# Altium footprint library HyTechDevices.PCBLIB: 209 footprints (part 4 of 14)
Each footprint in its own frame and in the unit in brackets; x right, y up, seen from the top. Pads: shape width x height; smd on the part's side, far side on the other; paste and mask are expansions set on the pad; w line width, h text height; cw(c..) or ccw(c..) is an arc to the next point about the centre after c.
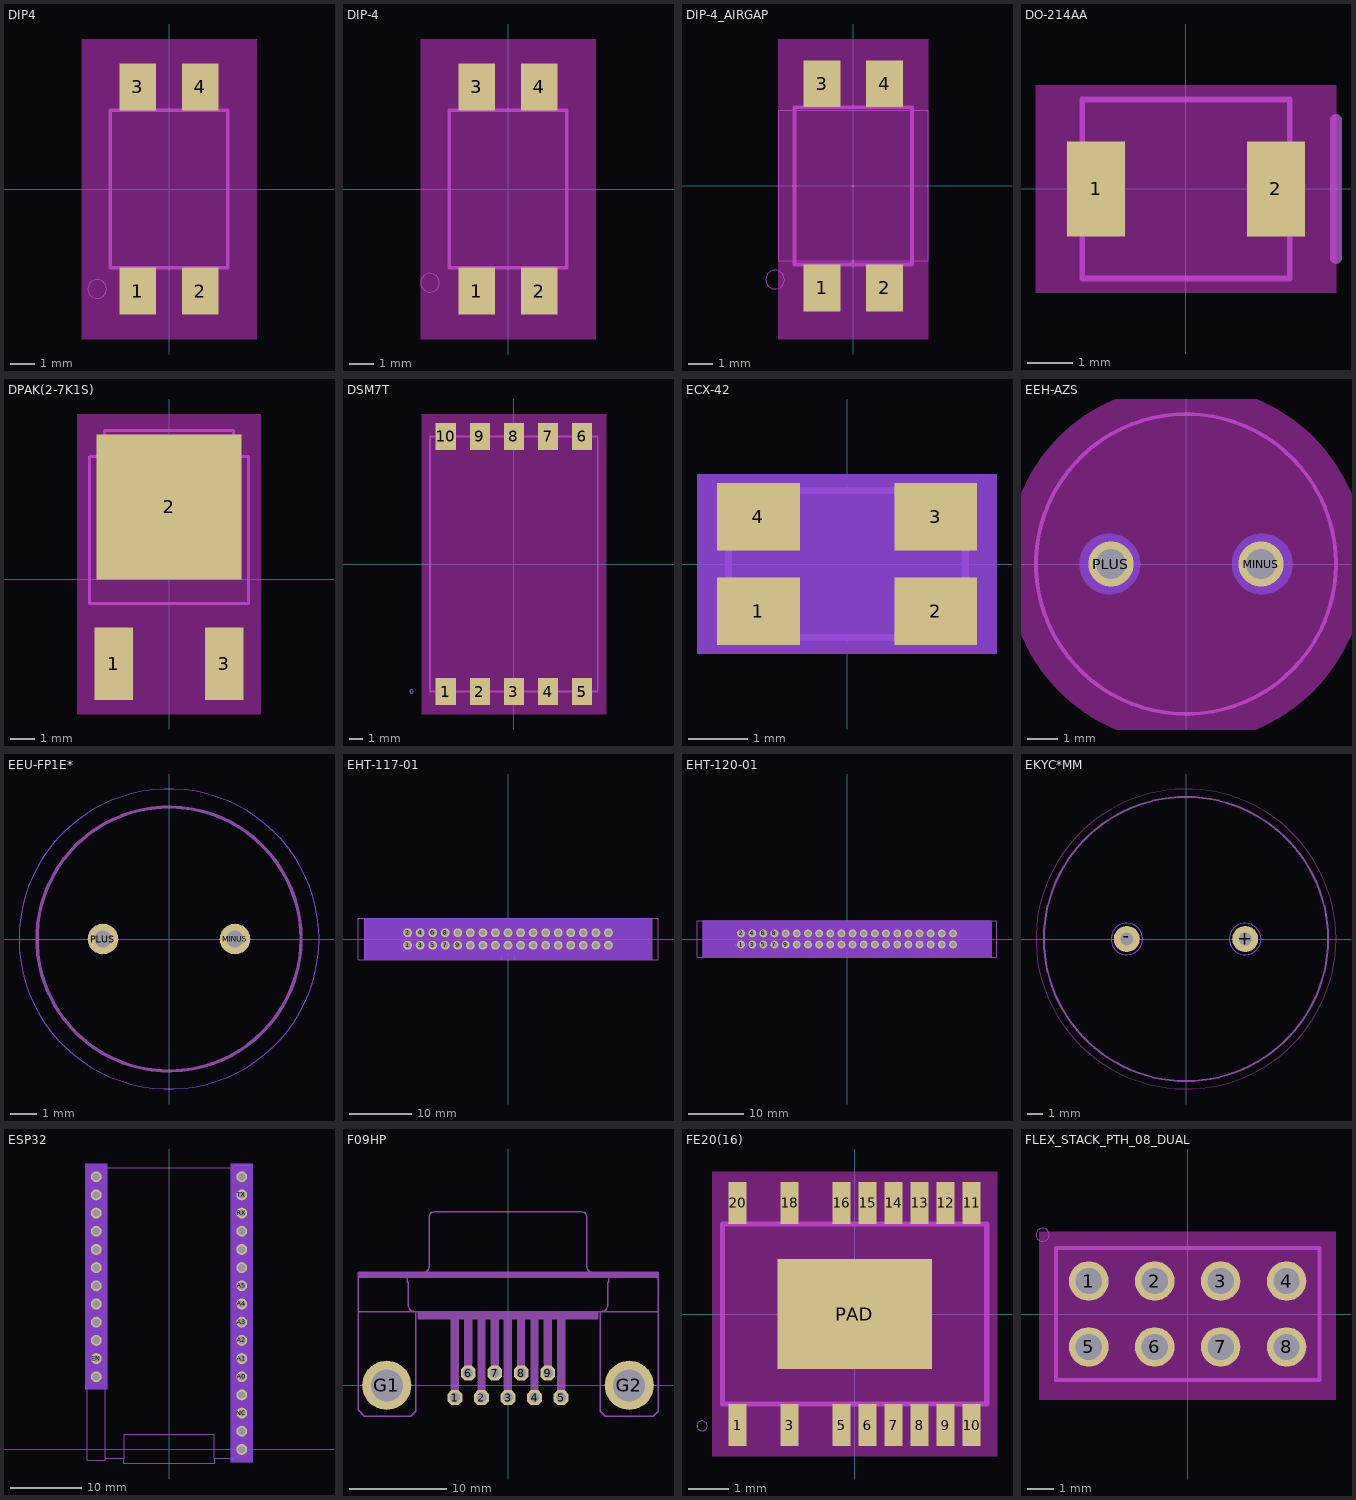
[diagram p3: the footprints below, top view; thin cyan lines are the x and y axes]

## DIP4 [mil]
pads (4):
  rect 59.06x74.8 smd: 1(-50,-163.39) 2(50,-163.39) 3(-50,163.39) 4(50,163.39)
Top keep-out:
  region: -140,-240 -140,240 140,240 140,-240
tPlace:
  circle w0: c-115,-160 r15
  lines w5: -94.09,-125.98 -94.09,125.98 94.09,125.98 94.09,-125.98 -94.09,-125.98

## DIP-4 [mil]
pads (4):
  rect 59.06x74.8 smd: 1(-50,-163.39) 2(50,-163.39) 3(-50,163.39) 4(50,163.39)
Top keep-out:
  region: -140,-240 -140,240 140,240 140,-240
tPlace:
  circle w0: c-125,-150 r15
  lines w6: -94.09,-125.98 -94.09,125.98 94.09,125.98 94.09,-125.98 -94.09,-125.98

## DIP-4_AIRGAP [mil]
pads (4):
  rect 59.06x74.8 smd: 1(-50,-163.39) 2(50,-163.39) 3(-50,163.39) 4(50,163.39)
Top keep-out:
  region: -120,-245 -120,235 120,235 120,-245
Milling:
  lines w2: -120,-120 -120,120 120,120 120,-120 -120,-120
tPlace:
  circle w0: c-125,-150 r15
  lines w6: -94.09,-125.98 -94.09,125.98 94.09,125.98 94.09,-125.98 -94.09,-125.98

## DO-214AA [mil]
pads (2):
  rect 50x82.68 smd: 1(-77.95,0) 2(77.95,0)
Top keep-out:
  region: -130,-90 -130,90 130,90 130,-90
tPlace:
  lines w5: -89.96,-77.56 89.96,-77.56 89.96,77.56 -89.96,77.56 -89.96,-77.56
  lines w10: 130,-60 130,60

## DPAK(2-7K1S) [mm]
pads (3):
  rect 1.6x3 smd: 1(-2.3,-3.5) 3(2.3,-3.5)
  rect 6x6 smd: 2(0,3)
Top keep-out:
  region: -3.81,-5.588 -3.81,6.858 3.81,6.858 3.81,-5.588
tPlace:
  lines w0.127: -3.3,-1 3.3,-1 3.3,5.1 2.67,5.1 2.67,6.18 -2.67,6.18 -2.67,5.1 -3.3,5.1 -3.3,-1

## DSM7T [mm]
pads (10):
  rect 1.5x2 smd: 1(-5.08,-9.5) 2(-2.54,-9.5) 3(0,-9.5) 4(2.54,-9.5) 5(5.08,-9.5) 6(5.08,9.5) 7(2.54,9.5) 8(0,9.5) 9(-2.54,9.5) 10(-5.08,9.5)
Top keep-out:
  region: -6.858,-11.176 -6.858,11.176 6.858,11.176 6.858,-11.176
tPlace:
  circle w0: c-7.62,-9.5 r0.127
  lines w0.127: -6.25,-9.5 -6.25,9.5 6.25,9.5 6.25,-9.5 -6.25,-9.5

## ECX-42 [mil]
pads (4):
  rect 55.12x45.28 smd: 1(-59.06,-31.5) 2(59.06,-31.5) 3(59.06,31.5) 4(-59.06,31.5)
Top keep-out:
  region: -100,-60 -100,60 100,60 100,-60
  region: -30,-60 -30,60 30,60 30,-60
  region: -100,-60 -100,60 100,60 100,-60
  region: -100,-8 -100,8 100,8 100,-8
Bottom keep-out:
  region: -100,-60 -100,60 100,60 100,-60
  region: -100,-60 -100,60 100,60 100,-60
tPlace:
  lines w5: -78.74,-49.21 78.74,-49.21 78.74,49.21 -78.74,49.21 -78.74,-49.21
3D body "X322512MSB4SI.stp": height 27.56, standoff 0, extent -62.99,-49.21 62.99,49.21

## EEH-AZS [mm]
pads (2):
  round 1.508 hole 1: MINUS(2.5,0) PLUS(-2.5,0)
Top keep-out:
  circle w6: c0,0 r3
Bottom keep-out:
  circle w1.016: c-2.54,0 r0.508
  circle w1.016: c2.54,0 r0.508
tPlace:
  circle w0.127: c0,0 r5
  text "-" at 6,0 h2.76
  text "+" at -6,0 h2.76

## EEU-FP1E* [mil]
pads (2):
  round 45.6 hole 25.6: MINUS(98.43,0) PLUS(-98.43,0)
Top keep-out:
  circle w0: c0,0 r223.61
Bottom keep-out:
  circle w0: c0,0 r223.61
tPlace:
  circle w5: c0,0 r196.8
  text "+" at -245,0 h49.6
  text "-" at 245,0 h49.6

## EHT-117-01 [mm]
pads (34):
  round 1.408 hole 0.9: 1(-16,-1) 2(-16,1) 3(-14,-1) 4(-14,1) 5(-12,-1) 6(-12,1) 7(-10,-1) 8(-10,1) 9(-8,-1) 10(-8,1) 11(-6,-1) 12(-6,1) 13(-4,-1) 14(-4,1) 15(-2,-1) 16(-2,1) 17(0,-1) 18(0,1) 19(2,-1) 20(2,1) 21(4,-1) 22(4,1) 23(6,-1) 24(6,1) 25(8,-1) 26(8,1) 27(10,-1) 28(10,1) 29(12,-1) 30(12,1) 31(14,-1) 32(14,1) 33(16,-1) 34(16,1)
Top keep-out:
  region: -22.895,-3.27 -22.895,3.27 22.895,3.27 22.895,-3.27
Bottom keep-out:
  region: -22.895,-3.27 -22.895,3.27 22.895,3.27 22.895,-3.27
tPlace:
  circle w0.127: c-16,-1 r1
  lines w0.127: -22.895,-3.27 -23.895,-3.27 -23.895,3.27 -22.895,3.27 ; -22.895,-3.27 -1,-3.27 ; -22.895,-3.27 -22.895,3.27 ; -22.895,3.27 22.895,3.27 ; -1,-3.27 1,-3.27 ; -1,-3.27 -1,-2.5 1,-2.5 1,-3.27 ; 1,-3.27 22.895,-3.27 ; 22.895,-3.27 23.895,-3.27 23.895,3.27 22.895,3.27 ; 22.895,-3.27 22.895,3.27

## EHT-120-01 [mm]
pads (40):
  round 1.408 hole 0.9: 1(-19,-1) 2(-19,1) 3(-17,-1) 4(-17,1) 5(-15,-1) 6(-15,1) 7(-13,-1) 8(-13,1) 9(-11,-1) 10(-11,1) 11(-9,-1) 12(-9,1) 13(-7,-1) 14(-7,1) 15(-5,-1) 16(-5,1) 17(-3,-1) 18(-3,1) 19(-1,-1) 20(-1,1) 21(1,-1) 22(1,1) 23(3,-1) 24(3,1) 25(5,-1) 26(5,1) 27(7,-1) 28(7,1) 29(9,-1) 30(9,1) 31(11,-1) 32(11,1) 33(13,-1) 34(13,1) 35(15,-1) 36(15,1) 37(17,-1) 38(17,1) 39(19,-1) 40(19,1)
Top keep-out:
  region: -25.895,-3.27 -25.895,3.27 25.895,3.27 25.895,-3.27
Bottom keep-out:
  region: -25.895,-3.27 -25.895,3.27 25.895,3.27 25.895,-3.27
tPlace:
  circle w0.127: c-19,-1 r1
  lines w0.127: -25.895,-3.27 -26.895,-3.27 -26.895,3.27 -25.895,3.27 ; -25.895,-3.27 -1,-3.27 ; -25.895,-3.27 -25.895,3.27 ; -25.895,3.27 25.895,3.27 ; -1,-3.27 1,-3.27 ; -1,-3.27 -1,-2.5 1,-2.5 1,-3.27 ; 1,-3.27 25.895,-3.27 ; 25.895,-3.27 26.895,-3.27 26.895,3.27 25.895,3.27 ; 25.895,-3.27 25.895,3.27

## EKYC*MM [mil]
pads (2):
  round 65 hole 31.5: +(147.64,0) -(-147.64,0)
Top keep-out:
  circle w0: c0,0 r374.02
Bottom keep-out:
  circle w0: c-147.64,0 r39.37
  circle w0: c147.64,0 r39.37
tPlace:
  circle w5: c0,0 r354.33
  text "+" at 400,0 h59.5
  text "-" at -400,0 h59.5

## ESP32 [mil]
pads (28):
  round 60 hole 40: 3.3V(400,100) A0(400,400) A1(400,500) A2(400,600) A3(400,700) A4(400,800) A5(400,900) BAT(-400,400) CIPO(400,1200) COPI(400,1100) D12(-400,800) D13(-400,700) D14(-400,1300) D15(-400,1100) D21(400,1500) D27(-400,900) D32(-400,1200) D33(-400,1000) EN(-400,500) GND(400,300) NC(400,200) RESET(400,0) RX(400,1300) SCK(400,1000) SCL(-400,1400) SDA(-400,1500) TX(400,1400) USB(-400,600)
Top keep-out:
  region: 340,-70 340,1570 460,1570 460,-70
  region: -460,330 -460,1570 -340,1570 -340,330
Bottom keep-out:
  region: -460,330 -460,1570 -340,1570 -340,330
  region: 340,-70 340,1570 460,1570 460,-70
tPlace:
  lines w5: -350,-50 -250,-50 ; -350,-50 -350,-60 -450,-60 -450,1560 -350,1560 -350,1550 ; -350,-50 -350,1550 ; -350,1550 350,1550 ; -250,-50 -250,-80 250,-80 250,-50 ; -250,-50 -250,80 250,80 250,-50 ; 250,-50 350,-50 ; 350,-50 350,-60 450,-60 450,1560 350,1560 350,1550 ; 350,-50 350,1550
  text ">ESP32" at 0,0 h68

## F09HP [mil]
pads (11):
  oct 60x60 / inner round 55.43 / far side oct 60x60 hole 40: 1(-216,-50) 2(-108,-50) 3(0,-50) 4(108,-50) 5(216,-50) 6(-162,50) 7(-54,50) 8(54,50) 9(162,50)
  round 200 hole 130: G1(-493,0) G2(493,0)
tDocu:
  lines w32: -216,-45 -216,-5 ; -162,55 -162,95 ; -108,-45 -108,-5 ; -54,55 -54,95 ; 0,-45 0,-5 ; 53,55 53,95 ; 108,-45 108,-5 ; 162,55 162,95 ; 216,-45 216,-5
tPlace:
  circle w6: c-493,0 r65
  circle w6: c493,0 r65
  region: -365,270 -365,300 365,300 365,270
  region: -610,440 -610,460 610,460 610,440
  region: -232,-15 -232,270 -200,270 -200,-15
  region: -178,85 -178,270 -146,270 -146,85
  region: -124,-15 -124,270 -92,270 -92,-15
  region: -70,85 -70,270 -38,270 -38,85
  region: -17,-15 -17,270 15,270 15,-15
  region: 37,85 37,270 69,270 69,85
  region: 92,-15 92,270 124,270 124,-15
  region: 146,85 146,270 178,270 178,85
  region: 200,-15 200,270 232,270 232,-15
  lines w6: -380,300 cw(c-380,325) -405,325 -405,420 -410,420 -410,440 ; -345,460 ccw(c-345,485) -320,485 -320,685 cw(c-300,685) -300,705 -290,705 290,705 300,705 cw(c300,685) 320,685 320,485 ccw(c345,485) 345,460 ; 380,300 ccw(c380,325) 405,325 405,420 410,420 410,440 ; -610,300 -410,300 -375,300 ; -610,300 -610,420 -610,440 ; -610,300 -610,295 -610,-100 -585,-125 -395,-125 -375,-105 -375,300 ; -610,440 -610,460 -305,460 305,460 610,460 610,440 ; -610,440 -510,440 -410,440 ; -410,440 410,440 ; -375,300 -365,300 ; -365,300 -365,270 365,270 365,300 ; -365,300 365,300 ; 365,300 375,300 ; 375,300 410,300 610,300 ; 375,300 375,-105 395,-125 590,-125 610,-105 610,295 610,300 ; 410,440 510,440 610,440 ; 610,300 610,420 610,440
  text "1" at -300,-75 h77.5
  text "5" at 275,-75 h77.5
  text "9" at 275,25 h77.5
  text "6" at -300,25 h77.5
  text "2,54" at 590,100 h77.5
  text "F09" at -300,335 h77.5

## FE20(16) [mil]
pads (17):
  rect 17.72x41.34 smd: 1(-115.16,-109.25) 3(-63.98,-109.25) 5(-12.8,-109.25) 6(12.8,-109.25) 7(38.39,-109.25) 8(63.98,-109.25) 9(89.57,-109.25) 10(115.16,-109.25) 11(115.16,109.25) 12(89.57,109.25) 13(63.98,109.25) 14(38.39,109.25) 15(12.8,109.25) 16(-12.8,109.25) 18(-63.98,109.25) 20(-115.16,109.25)
  rect 151.97x107.87 smd: PAD(0,0)
Top keep-out:
  region: -140,-140 -140,140 140,140 140,-140
tPlace:
  circle w0: c-150,-110 r5
  lines w5: -129.92,-88.58 129.92,-88.58 129.92,88.58 -129.92,88.58 -129.92,-88.58

## FLEX_STACK_PTH_08_DUAL [mil]
pads (8):
  round 60 hole 40: 1(-150,50) 2(-50,50) 3(50,50) 4(150,50) 5(-150,-50) 6(-50,-50) 7(50,-50) 8(150,-50)
Top keep-out:
  region: -225,-130 -225,125 225,125 225,-130
tPlace:
  circle w0: c-220,120 r10
  lines w6: -200,-100 200,-100 200,100 -200,100 -200,-100